# Altium footprint library SnapEDApcb.PcbLib: 1 footprints
Each footprint in its own frame and in the unit in brackets; x right, y up, seen from the top. Pads: shape width x height; smd on the part's side, far side on the other; paste and mask are expansions set on the pad; w line width, h text height; cw(c..) or ccw(c..) is an arc to the next point about the centre after c.
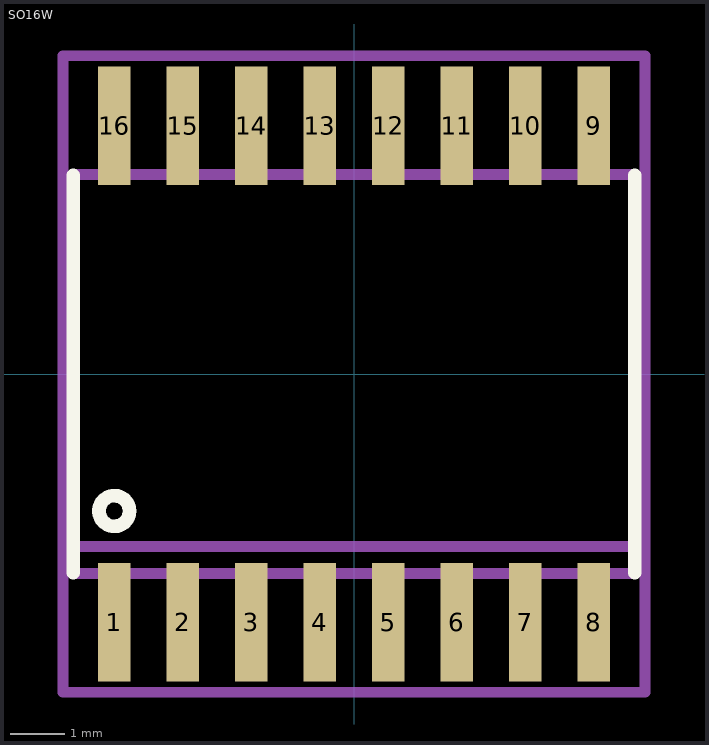
[diagram p0: the footprint, top view; thin cyan lines are the x and y axes]

## SO16W [mm]
pads (16):
  rect 0.6x2.2 smd: 1(-4.445,-4.6) 2(-3.175,-4.6) 3(-1.905,-4.6) 4(-0.635,-4.6) 5(0.635,-4.6) 6(1.905,-4.6) 7(3.175,-4.6) 8(4.445,-4.6) 9(4.445,4.6) 10(3.175,4.6) 11(1.905,4.6) 12(0.635,4.6) 13(-0.635,4.6) 14(-1.905,4.6) 15(-3.175,4.6) 16(-4.445,4.6)
Top Overlay:
  circle w0.254: c-4.445,-2.54 r0.284
  lines w0.254: -5.207,-3.683 -5.207,3.683 ; 5.207,-3.683 5.207,3.683
Mechanical 13:
  region: -4.2,3.8 -4.69,3.8 -4.69,5.32 -4.2,5.32
  region: -2.93,3.8 -3.42,3.8 -3.42,5.32 -2.93,5.32
  region: -1.66,3.8 -2.15,3.8 -2.15,5.32 -1.66,5.32
  region: -0.39,3.8 -0.88,3.8 -0.88,5.32 -0.39,5.32
  region: 0.88,3.8 0.39,3.8 0.39,5.32 0.88,5.32
  region: 2.15,3.8 1.66,3.8 1.66,5.32 2.15,5.32
  region: 3.42,3.8 2.93,3.8 2.93,5.32 3.42,5.32
  region: 4.69,3.8 4.2,3.8 4.2,5.32 4.69,5.32
  region: 4.69,-5.32 4.2,-5.32 4.2,-3.8 4.69,-3.8
  region: 3.42,-5.32 2.93,-5.32 2.93,-3.8 3.42,-3.8
  region: 2.15,-5.32 1.66,-5.32 1.66,-3.8 2.15,-3.8
  region: 0.88,-5.32 0.39,-5.32 0.39,-3.8 0.88,-3.8
  region: -0.39,-5.32 -0.88,-5.32 -0.88,-3.8 -0.39,-3.8
  region: -1.66,-5.32 -2.15,-5.32 -2.15,-3.8 -1.66,-3.8
  region: -2.93,-5.32 -3.42,-5.32 -3.42,-3.8 -2.93,-3.8
  region: -4.2,-5.32 -4.69,-5.32 -4.69,-3.8 -4.2,-3.8
  lines w0.203: -5.19,-3.2 5.19,-3.2 ; -5.19,-3.2 -5.19,3.7 5.19,3.7 5.19,-3.2 ; -5.19,-3.2 -5.19,-3.7 5.19,-3.7 5.19,-3.2
Mechanical 15:
  lines w0.2: -5.395,-5.9 -5.395,5.9 5.395,5.9 5.395,-5.9 -5.395,-5.9
3D body "DS3231.STEP": height 2.65, standoff 0, extent -5.15,-5.162 5.15,5.162